# EAGLE library part QT320 (library dviid)
2-Channel charge transfer sensor IC capable of detecting near-proximity or touch.
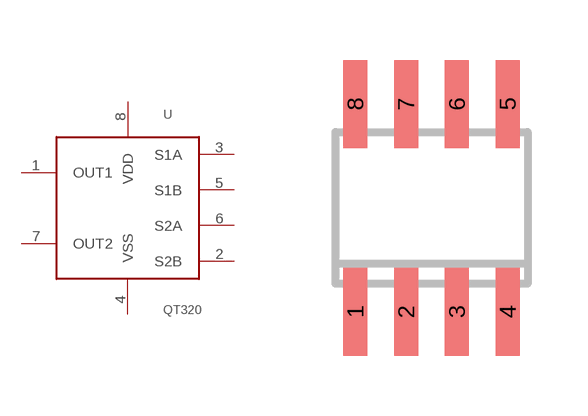
[diagram p4: symbol with the pads of SOIC8; footprint SOIC8]

Designator prefix -

## QT320  [SOIC8]
1  OUT1  out
2  S2B
3  S1A
4  VSS  pwr
5  S1B
6  S2A
7  OUT2  out
8  VDD  pwr

## Footprint SOIC8 (pad centres in mm)
smd 0.6 x 2.2: 1 -1.905,-2.6; 2 -0.635,-2.6; 3 0.635,-2.6; 4 1.905,-2.6; 5 1.905,2.6; 6 0.635,2.6; 7 -0.635,2.6; 8 -1.905,2.6